# Altium schematic symbol library ADT1-1WT+.SchLib: 1 symbol
Pins are listed as number, name and electrical type; pins without a type are passive.

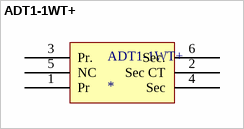
[diagram p0: symbol ADT1-1WT+]

## ADT1-1WT+
designator ADT1-1WT+
footprint ADT1-1WT+
pins: 1 Pr, 2 Sec CT, 3 Pr., 4 Sec, 5 NC, 6 Sec.